# EAGLE library part GELE_V05_61002013321 (library Board_v.03b)
2.54mm SMT Socket Header, 20 Pins, hand-bent from non-smd part=>
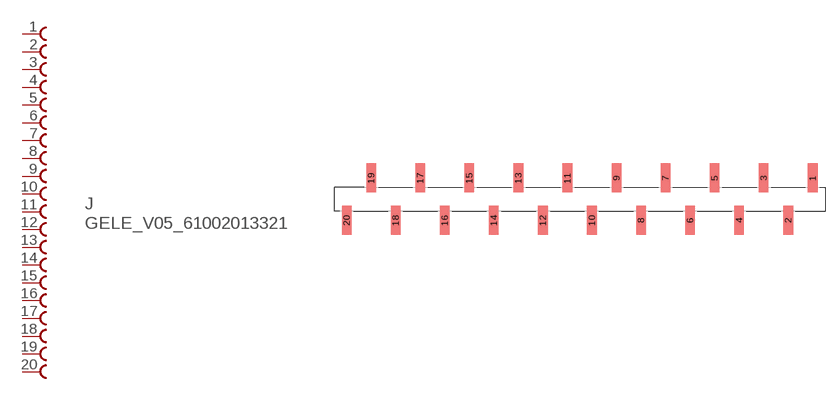
[diagram p1: symbol with the pads of GELE_V05_CON-20PIN-SMD-MANUALLY-BENT-FROM-NON-SMD; footprint GELE_V05_CON-20PIN-SMD-MANUALLY-BENT-FROM-NON-SMD]

Designator prefix J

## GELE_V05_61002013321  [GELE_V05_CON-20PIN-SMD-MANUALLY-BENT-FROM-NON-SMD]
1  1  pas
2  2  pas
3  3  pas
4  4  pas
5  5  pas
6  6  pas
7  7  pas
8  8  pas
9  9  pas
10  10  pas
11  11  pas
12  12  pas
13  13  pas
14  14  pas
15  15  pas
16  16  pas
17  17  pas
18  18  pas
19  19  pas
20  20  pas

## Footprint GELE_V05_CON-20PIN-SMD-MANUALLY-BENT-FROM-NON-SMD (pad centres in mm)
Connector, 2.54mm SMT Socket Header, 20 Pins, pins manually bent from non-SMT part
smd 1 x 3: 1 24.13,2.19; 2 21.59,-2.19; 3 19.05,2.19; 4 16.51,-2.19; 5 13.97,2.19; 6 11.43,-2.19; 7 8.89,2.19; 8 6.35,-2.19; 9 3.81,2.19; 10 1.27,-2.19; 11 -1.27,2.19; 12 -3.81,-2.19; 13 -6.35,2.19; 14 -8.89,-2.19; 15 -11.43,2.19; 16 -13.97,-2.19; 17 -16.51,2.19; 18 -19.05,-2.19; 19 -21.59,2.19; 20 -24.13,-2.19